# EAGLE library part WELLS-TSOP40-14MM (library untitled)
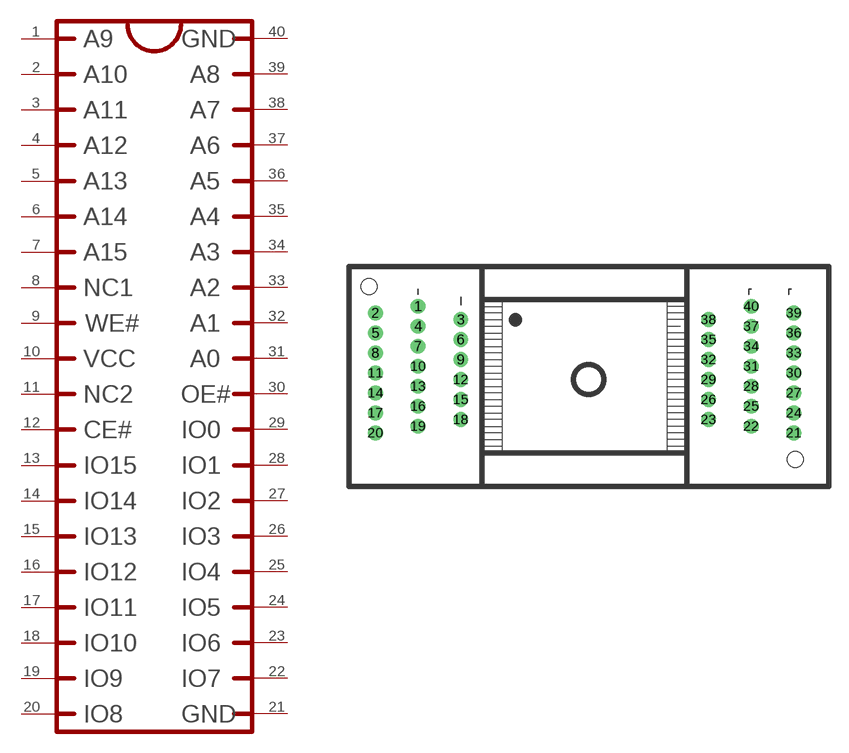
[diagram p0: symbol with the pads of WELLSTSOP40-14MM; footprint WELLSTSOP40-14MM]

Designator prefix ZIF

## WELLS-TSOP40-14MM  [WELLSTSOP40-14MM]
1  A9  pas
2  A10  pas
3  A11  pas
4  A12  pas
5  A13  pas
6  A14  pas
7  A15  pas
8  NC1  pas
9  WE  pas
10  VCC  pas
11  NC2  pas
12  CE#  pas
13  IO15  pas
14  IO14  pas
15  IO13  pas
16  IO12  pas
17  IO11  pas
18  IO10  pas
19  IO9  pas
20  IO8  pas
21  GND  pas
22  IO7  pas
23  IO6  pas
24  IO5  pas
25  IO4  pas
26  IO3  pas
27  IO2  pas
28  IO1  pas
29  IO0  pas
30  OE#  pas
31  A0  pas
32  A1  pas
33  A2  pas
34  A3  pas
35  A4  pas
36  A5  pas
37  A6  pas
38  A7  pas
39  A8  pas
40  GND2  pas

## Footprint WELLSTSOP40-14MM (pad centres in mm)
drill 0.6 round: 1 -12.8,5.5; 2 -16,5; 3 -9.6,4.5; 4 -12.8,4; 5 -16,3.5; 6 -9.6,3; 7 -12.8,2.5; 8 -16,2; 9 -9.6,1.5; 10 -12.8,1; 11 -16,0.5; 12 -9.6,0; 13 -12.8,-0.5; 14 -16,-1; 15 -9.6,-1.5; 16 -12.8,-2; 17 -16,-2.5; 18 -9.6,-3; 19 -12.8,-3.5; 20 -16,-4; 21 15.4,-4; 22 12.2,-3.5; 23 9,-3; 24 15.4,-2.5; 25 12.2,-2; 26 9,-1.5; 27 15.4,-1; 28 12.2,-0.5; 29 9,0; 30 15.4,0.5; 31 12.2,1; 32 9,1.5; 33 15.4,2; 34 12.2,2.5; 35 9,3; 36 15.4,3.5; 37 12.2,4; 38 9,4.5; 39 15.4,5; 40 12.2,5.5
hole 1.2 at -16.5,7
hole 1.2 at 15.5,-6